# Altium integrated library Motorola Video Colour Decoder Circuit.IntLib: 5 symbols
Pins are listed as number, name and electrical type; pins without a type are passive.

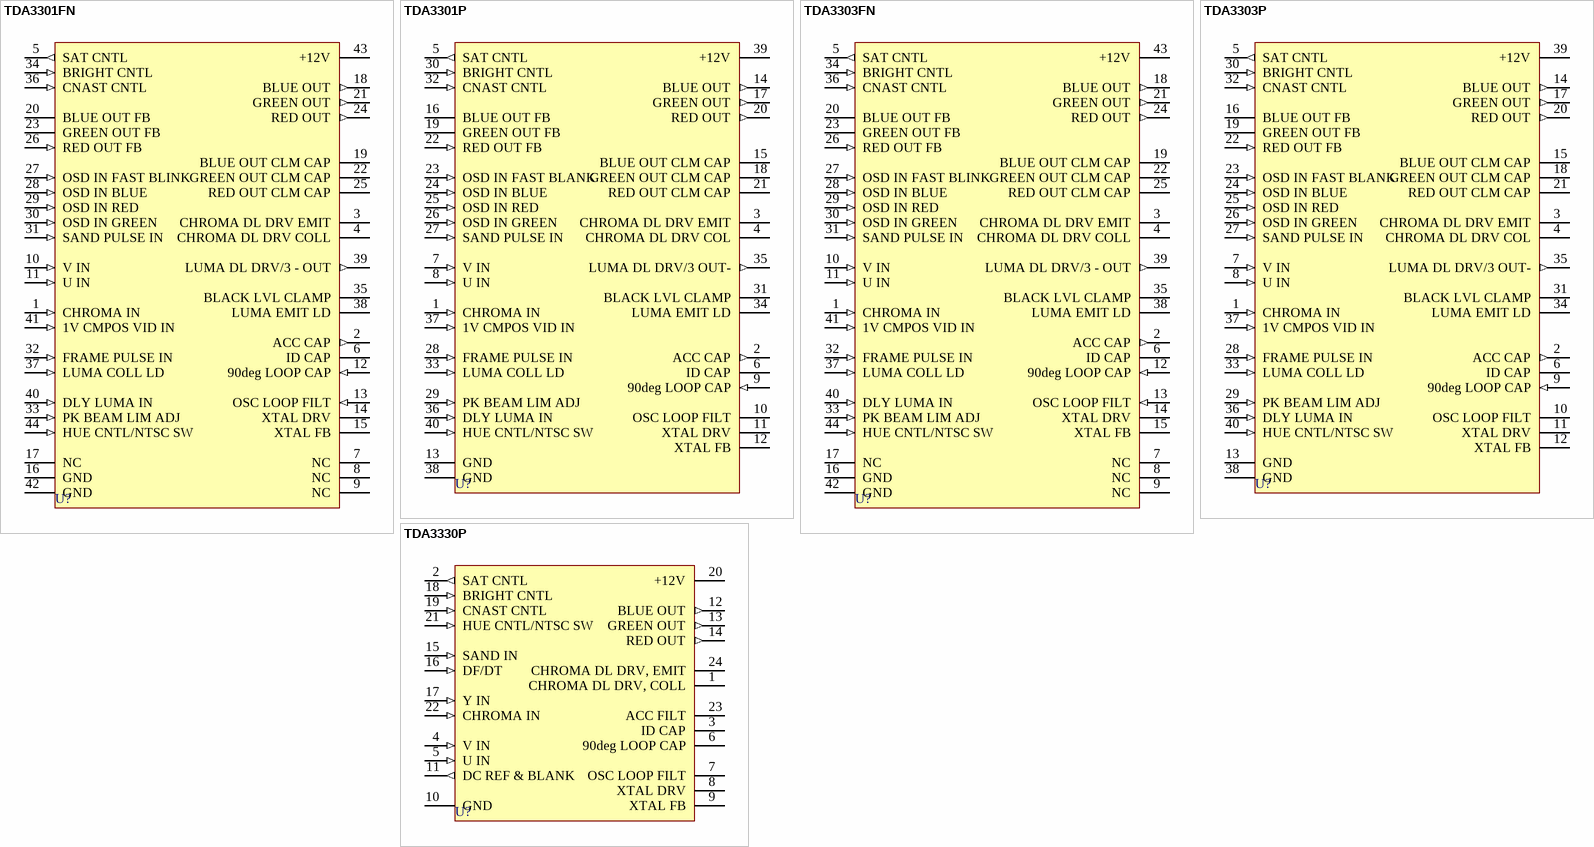
[diagram p0: symbols TDA3301FN to TDA3330P]

## TDA3301FN
designator U?
TV Color Processor; Published: 17-Jul-2002; LatestRevisionDate: 13-Apr-2006; LatestRevisionNote: IPC-7351 Footprint Added.; DatasheetVersion: 1988; PackageVersion: rev3, Feb-2002; PackageReference: 777-02; Publisher: Altium Limited; PackageDescription: 44-Pin Plastic Leaded Chip Carrier 1.27 mm Pitch
footprint 777-02_N (Leaded Chip Carrier, 44-Leads, Body 16.6x16.6mm, Pitch 1.27mm, IPC Medium Density)
footprint 777-02_L (Leaded Chip Carrier, 44-Leads, Body 16.6x16.6mm, Pitch 1.27mm, IPC High Density)
footprint 777-02_M (Leaded Chip Carrier, 44-Leads, Body 16.6x16.6mm, Pitch 1.27mm, IPC Low Density)
3D model TDA3301-777-02 (44-Pin Plastic Leaded Chip Carrier 1.27 mm Pitch)
pins: 1 CHROMA IN (in), 2 ACC CAP (out), 3 CHROMA DL DRV EMIT, 4 CHROMA DL DRV COLL, 5 SAT CNTL (out), 6 ID CAP, 7 NC, 8 NC, 9 NC, 10 V IN (in), 11 U IN (in), 12 90deg LOOP CAP (in), 13 OSC LOOP FILT (in), 14 XTAL DRV, 15 XTAL FB, 16 GND (power), 17 NC, 18 BLUE OUT (out), 19 BLUE OUT CLM CAP, 20 BLUE OUT FB, 21 GREEN OUT (out), 22 GREEN OUT CLM CAP, 23 GREEN OUT FB, 24 RED OUT (out), 25 RED OUT CLM CAP, 26 RED OUT FB (in), 27 OSD IN FAST BLINK (in), 28 OSD IN BLUE (in), 29 OSD IN RED (in), 30 OSD IN GREEN (in), 31 SAND PULSE IN (in), 32 FRAME PULSE IN (in), 33 PK BEAM LIM ADJ (in), 34 BRIGHT CNTL (in), 35 BLACK LVL CLAMP, 36 CNAST CNTL (in), 37 LUMA COLL LD (in), 38 LUMA EMIT LD, 39 LUMA DL DRV/3 - OUT (out), 40 DLY LUMA IN (in), 41 1V CMPOS VID IN (in), 42 GND (power), 43 +12V (power), 44 HUE CNTL/NTSC SW (in)

## TDA3301P
designator U?
TV Color Processor; Published: 17-Jul-2002; LatestRevisionDate: 06-Jun-2005; LatestRevisionNote: Stylized 3D Model Added.; DatasheetVersion: 1988; PackageReference: 711-03; Publisher: Altium Limited; PackageDescription: DIP; 40 Leads; Row Spacing 15.24 mm; Pitch 2.54 mm
footprint 711-03 (DIP; 40 Leads; Row Spacing 15.24 mm; Pitch 2.54 mm)
3D model 711-03 (DIP; 40 Leads; Row Spacing 15.24 mm; Pitch 2.54 mm)
pins: 1 CHROMA IN (in), 2 ACC CAP (out), 3 CHROMA DL DRV EMIT, 4 CHROMA DL DRV COL, 5 SAT CNTL (out), 6 ID CAP, 7 V IN (in), 8 U IN (in), 9 90deg LOOP CAP (in), 10 OSC LOOP FILT, 11 XTAL DRV, 12 XTAL FB, 13 GND (power), 14 BLUE OUT (out), 15 BLUE OUT CLM CAP, 16 BLUE OUT FB, 17 GREEN OUT (out), 18 GREEN OUT CLM CAP, 19 GREEN OUT FB, 20 RED OUT (out), 21 RED OUT CLM CAP, 22 RED OUT FB (in), 23 OSD IN FAST BLANK (in), 24 OSD IN BLUE (in), 25 OSD IN RED (in), 26 OSD IN GREEN (in), 27 SAND PULSE IN (in), 28 FRAME PULSE IN (in), 29 PK BEAM LIM ADJ (in), 30 BRIGHT CNTL (in), 31 BLACK LVL CLAMP, 32 CNAST CNTL (in), 33 LUMA COLL LD (in), 34 LUMA EMIT LD, 35 LUMA DL DRV/3 OUT- (out), 36 DLY LUMA IN (in), 37 1V CMPOS VID IN (in), 38 GND (power), 39 +12V (power), 40 HUE CNTL/NTSC SW (in)

## TDA3303FN
designator U?
TV Color Processor; Published: 17-Jul-2002; LatestRevisionDate: 13-Apr-2006; LatestRevisionNote: IPC-7351 Footprint Added.; DatasheetVersion: 1988; PackageVersion: rev3, Feb-2002; PackageReference: 777-02; Publisher: Altium Limited; PackageDescription: 44-Pin Plastic Leaded Chip Carrier 1.27 mm Pitch
footprint 777-02_N (Leaded Chip Carrier, 44-Leads, Body 16.6x16.6mm, Pitch 1.27mm, IPC Medium Density)
footprint 777-02_L (Leaded Chip Carrier, 44-Leads, Body 16.6x16.6mm, Pitch 1.27mm, IPC High Density)
footprint 777-02_M (Leaded Chip Carrier, 44-Leads, Body 16.6x16.6mm, Pitch 1.27mm, IPC Low Density)
3D model TDA3303-777-02 (44-Pin Plastic Leaded Chip Carrier 1.27 mm Pitch)
pins: 1 CHROMA IN (in), 2 ACC CAP (out), 3 CHROMA DL DRV EMIT, 4 CHROMA DL DRV COLL, 5 SAT CNTL (out), 6 ID CAP, 7 NC, 8 NC, 9 NC, 10 V IN (in), 11 U IN (in), 12 90deg LOOP CAP (in), 13 OSC LOOP FILT (in), 14 XTAL DRV, 15 XTAL FB, 16 GND (power), 17 NC, 18 BLUE OUT (out), 19 BLUE OUT CLM CAP, 20 BLUE OUT FB, 21 GREEN OUT (out), 22 GREEN OUT CLM CAP, 23 GREEN OUT FB, 24 RED OUT (out), 25 RED OUT CLM CAP, 26 RED OUT FB (in), 27 OSD IN FAST BLINK (in), 28 OSD IN BLUE (in), 29 OSD IN RED (in), 30 OSD IN GREEN (in), 31 SAND PULSE IN (in), 32 FRAME PULSE IN (in), 33 PK BEAM LIM ADJ (in), 34 BRIGHT CNTL (in), 35 BLACK LVL CLAMP, 36 CNAST CNTL (in), 37 LUMA COLL LD (in), 38 LUMA EMIT LD, 39 LUMA DL DRV/3 - OUT (out), 40 DLY LUMA IN (in), 41 1V CMPOS VID IN (in), 42 GND (power), 43 +12V (power), 44 HUE CNTL/NTSC SW (in)

## TDA3303P
designator U?
TV Color Processor; Published: 17-Jul-2002; LatestRevisionDate: 06-Jun-2005; LatestRevisionNote: Stylized 3D Model Added.; DatasheetVersion: 1988; PackageReference: 711-03; Publisher: Altium Limited; PackageDescription: DIP; 40 Leads; Row Spacing 15.24 mm; Pitch 2.54 mm
footprint 711-03 (DIP; 40 Leads; Row Spacing 15.24 mm; Pitch 2.54 mm)
3D model 711-03 (DIP; 40 Leads; Row Spacing 15.24 mm; Pitch 2.54 mm)
pins: 1 CHROMA IN (in), 2 ACC CAP (out), 3 CHROMA DL DRV EMIT, 4 CHROMA DL DRV COL, 5 SAT CNTL (out), 6 ID CAP, 7 V IN (in), 8 U IN (in), 9 90deg LOOP CAP (in), 10 OSC LOOP FILT, 11 XTAL DRV, 12 XTAL FB, 13 GND (power), 14 BLUE OUT (out), 15 BLUE OUT CLM CAP, 16 BLUE OUT FB, 17 GREEN OUT (out), 18 GREEN OUT CLM CAP, 19 GREEN OUT FB, 20 RED OUT (out), 21 RED OUT CLM CAP, 22 RED OUT FB (in), 23 OSD IN FAST BLANK (in), 24 OSD IN BLUE (in), 25 OSD IN RED (in), 26 OSD IN GREEN (in), 27 SAND PULSE IN (in), 28 FRAME PULSE IN (in), 29 PK BEAM LIM ADJ (in), 30 BRIGHT CNTL (in), 31 BLACK LVL CLAMP, 32 CNAST CNTL (in), 33 LUMA COLL LD (in), 34 LUMA EMIT LD, 35 LUMA DL DRV/3 OUT- (out), 36 DLY LUMA IN (in), 37 1V CMPOS VID IN (in), 38 GND (power), 39 +12V (power), 40 HUE CNTL/NTSC SW (in)

## TDA3330P
designator U?
TV Color Processor; Published: 17-Jul-2002; LatestRevisionDate: 06-Jun-2005; LatestRevisionNote: Stylized 3D Model Added.; DatasheetVersion: 1988; PackageReference: 724-03; Publisher: Altium Limited; PackageDescription: DIP; 24 Leads; Row Spacing 7.62 mm; Pitch 2.54 mm; Code_JEDEC: MS-001-AF
footprint 724-03 (DIP; 24 Leads; Row Spacing 7.62 mm; Pitch 2.54 mm)
3D model 724-03 (DIP; 24 Leads; Row Spacing 7.62 mm; Pitch 2.54 mm)
pins: 1 CHROMA DL DRV, COLL, 2 SAT CNTL (out), 3 ID CAP, 4 V IN (in), 5 U IN (in), 6 90deg LOOP CAP, 7 OSC LOOP FILT, 8 XTAL DRV, 9 XTAL FB, 10 GND (power), 11 DC REF & BLANK (out), 12 BLUE OUT (out), 13 GREEN OUT (out), 14 RED OUT (out), 15 SAND IN (in), 16 DF/DT (in), 17 Y IN (in), 18 BRIGHT CNTL (in), 19 CNAST CNTL (in), 20 +12V (power), 21 HUE CNTL/NTSC SW (in), 22 CHROMA IN (in), 23 ACC FILT, 24 CHROMA DL DRV, EMIT